# Altium schematic symbol library FTDI FT Series.SchLib: 36 symbols (part 1 of 2)
Pins are listed as number, name and electrical type; pins without a type are passive.

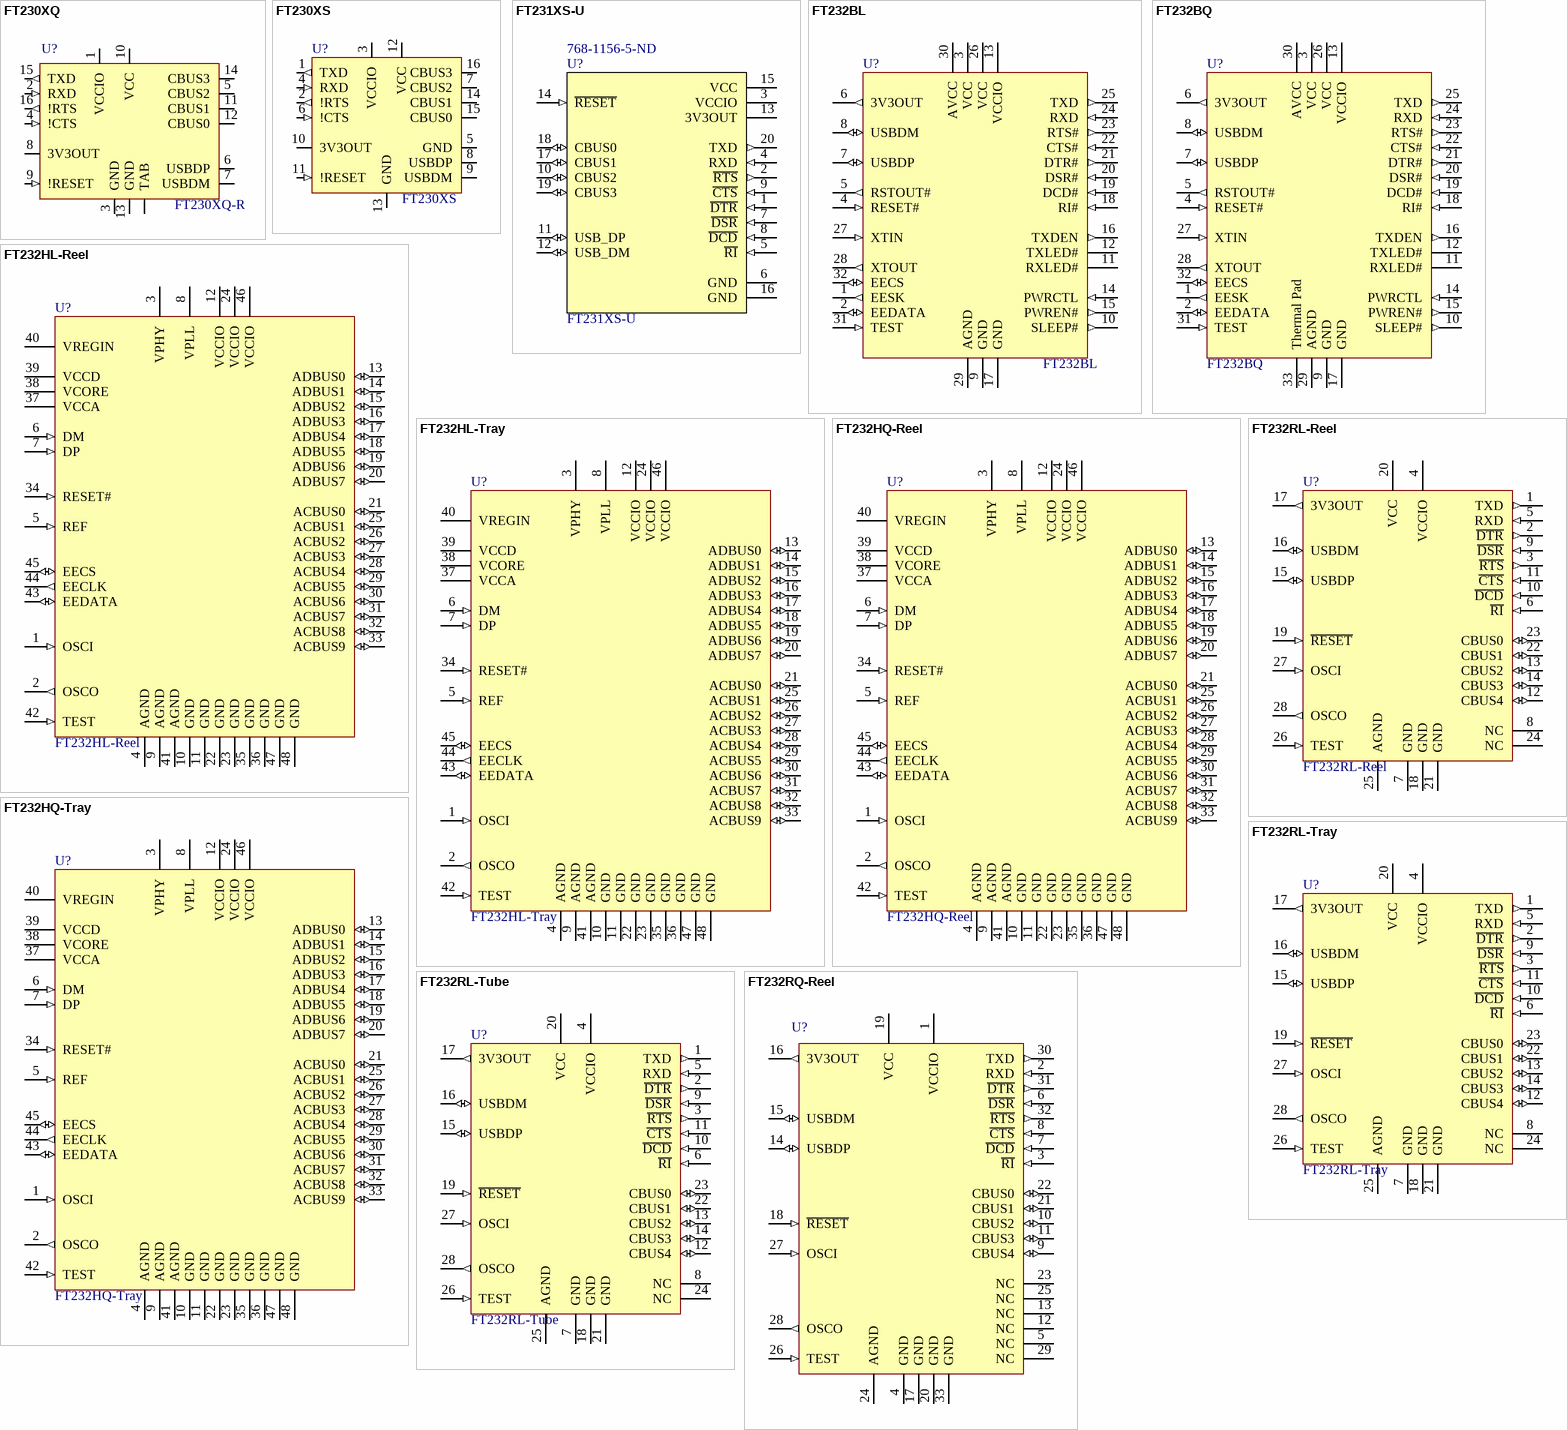
[diagram p0: symbols FT230XQ to FT232RQ-Reel]

## FT230XQ
designator U?, comment FT230XQ-R
IC USB SERIAL BASIC UART 16QFN; Manuf1: FTDI; Populated: Yes; Manuf1Partnumber: FT230XQ-R; Value: FT230XQ-R; ROHS: Yes; Supplier 1: Digi-Key; Supplier Part Number 1: 768-1153-ND; ClassName: *; Code_JEDEC: *; HelpURL: *
footprint QFN16
footprint QFN16-UPDATE
pins: 1 VCCIO (power), 2 RXD (in), 3 GND (power), 4 !CTS (in), 5 CBUS2 (io), 6 USBDP (io), 7 USBDM (io), 8 3V3OUT (power), 9 !RESET (in), 10 VCC (power), 11 CBUS1 (io), 12 CBUS0 (io), 13 GND (power), 14 CBUS3 (io), 15 TXD (out), 16 !RTS (out), TAB (power)

## FT230XS
designator U?
USB to BASIC UART IC   SSOP16; Manuf1: FTDI; Populated: Yes; Value: FT230XS; Manuf1Partnumber: FT230XS; ROHS: Yes; Supplier 1: Digi-Key; Supplier Part Number 1: 768-1154-5-ND; ClassName: *; HelpURL: *
footprint SSOP16
pins: 1 TXD (out), 2 !RTS (out), 3 VCCIO (power), 4 RXD (in), 5 GND (power), 6 !CTS (in), 7 CBUS2 (io), 8 USBDP (io), 9 USBDM (io), 10 3V3OUT (power), 11 !RESET (in), 12 VCC (power), 13 GND (power), 14 CBUS1 (io), 15 CBUS0 (io), 16 CBUS3 (io)

## FT231XS-U
designator U?  Supplier Part Number 1: 768-1156-5-ND
FT231XS-U, Usb Controller, 3MBD, Usb 1.1, Usb 2.0, 5 V, 20-PIN SSOP; Manufacturer: FTDI; Number of Channels: 1; Operating Supply Voltage: 5V; Max Supply Voltage: 5.5V; Min Supply Voltage: 2.97V; Data Rate: 3Mbps; ESD Protection: Yes; Supplier 1: Digi-Key; Manufacturer Part Number: FT231XS-U; RoHS: Yes; Category: Interface ICs; Stock 1: 5615; Pricing 1: 1=2,34000, 25=2,27000, 100=2,20000, 250=2,00000, 500=1,82500 (USD); Mount: Surface Mount; Case/Package: SSOP; Number of Pins: 20; Min Operating Temperature: -40°C; Max Operating Temperature: 85°C; Packaging: Rail/Tube; Package Quantity: 58; Number of Transceivers: 1; Series: *; Length: 8.74mm; Width: 3.99mm; Height: 1.5mm; Radiation Hardening: No; Lead Free: Lead Free; RoHS Compliant: Yes; ComponentLink1URL: https://datasheet.ciiva.com/16379/ds-ft231x-16379279.pdf?src-supplier=Future+Electronics; ComponentLink1Description: https://datasheet.ciiva.com/16379/ds-ft231x-16379279.pdf?src-supplier=Future+Electronics; ComponentLink2URL: https://datasheet.ciiva.com/15150/getdatasheetpartid-643513-15150507.pdf?src-supplier=Verical; ComponentLink2Description: https://datasheet.ciiva.com/15150/getdatasheetpartid-643513-15150507.pdf?src-supplier=Verical; ComponentLink3URL: https://datasheet.ciiva.com/48909/70403933-48909079.pdf?src-supplier=Allied+Electronics; ComponentLink3Description: https://datasheet.ciiva.com/48909/70403933-48909079.pdf?src-supplier=Allied+Electronics
footprint SOP63P600X175-20N (IC USB SERIAL FULL UART 20SSOP)
pins: 1 ~{DTR} (in), 2 ~{RTS} (out), 3 VCCIO (power), 4 RXD (in), 5 ~{RI} (in), 6 GND (power), 7 ~{DSR} (in), 8 ~{DCD} (in), 9 ~{CTS} (in), 10 CBUS2 (io), 11 USB_DP (io), 12 USB_DM (io), 13 3V3OUT (power), 14 ~{RESET} (in), 15 VCC (power), 16 GND (power), 17 CBUS1 (io), 18 CBUS0 (io), 19 CBUS3 (io), 20 TXD (out)

## FT232BL
designator U?
USB UART Asynchronous Serial Data Transfer Chip, 0 to +70 degC, 32-pin LQFP, Pb-Free; Manufacturer: FTDI; Populated: Yes; DatasheetVersion: ver 2.2, Nov-2011; PackageVersion: Nov-11; PackageReference: LQFP-32; PackageDescription: 32-Pin Thin Quad Flat Pack, 7 x 7 mm Body, 0.8 mm Pitch; PartNumber: FT232BL; ComponentLink1Description: Manufacturer URL; ComponentLink1URL: http://www.ftdichip.com/; ComponentLink2Description: Datasheet; ComponentLink2URL: http://www.ftdichip.com/Support/Documents/DataSheets/ICs/DS_FT232BL_BQ.pdf; Manuf1: FTDI; Value: FT232BL; Supplier 1: Digi-Key; Supplier Part Number 1: 768-1009-1-ND
footprint LQFP-32_N (Thin QFP, 32-Leads, Body 7x7mm, Pitch 0.8mm, IPC Medium Density)
footprint LQFP-32_L (Thin QFP, 32-Leads, Body 7x7mm, Pitch 0.8mm, IPC High Density)
footprint LQFP-32_M (Thin QFP, 32-Leads, Body 7x7mm, Pitch 0.8mm, IPC Low Density)
pins: 1 EESK (out), 2 EEDATA (io), 3 VCC (power), 4 RESET# (in), 5 RSTOUT# (out), 6 3V3OUT (out), 7 USBDP (io), 8 USBDM (io), 9 GND (power), 10 SLEEP# (out), 11 RXLED# (oc), 12 TXLED# (oc), 13 VCCIO (power), 14 PWRCTL (in), 15 PWREN# (out), 16 TXDEN (out), 17 GND (power), 18 RI# (in), 19 DCD# (in), 20 DSR# (in), 21 DTR# (out), 22 CTS# (in), 23 RTS# (out), 24 RXD (in), 25 TXD (out), 26 VCC (power), 27 XTIN (in), 28 XTOUT (out), 29 AGND (power), 30 AVCC (power), 31 TEST (in), 32 EECS (io)

## FT232BQ
designator U?
USB UART Asynchronous Serial Data Transfer Chip, 0 to +70 degC, 32-pin QFN, Pb-Free; Manufacturer: FTDI; Populated: Yes; DatasheetVersion: ver 2.2, Nov-2011; PackageVersion: Nov-11; PackageReference: QFN5X5-32; PackageDescription: 32-Pin Quad Flat No-Lead, 5 x 5 mm Body, 0.5 mm Pitch; PartNumber: FT232BQ; ComponentLink1Description: Manufacturer URL; ComponentLink1URL: http://www.ftdichip.com/; ComponentLink2Description: Datasheet; ComponentLink2URL: http://www.ftdichip.com/Support/Documents/DataSheets/ICs/DS_FT232BL_BQ.pdf; Manuf1: FTDI; ROHS: Yes; Value: FT232BQ; Supplier 1: Digi-Key; Supplier Part Number 1: 768-1067-1-ND
footprint QFN5X5-32_N (QFN, 32-Leads, Body 5x5mm, Pitch 0.5mm, Thermal Pad 3.3x3.3mm, IPC Medium Density)
footprint QFN5X5-32_L (QFN, 32-Leads, Body 5x5mm, Pitch 0.5mm, Thermal Pad 3.3x3.3mm, IPC High Density)
footprint QFN5X5-32_M (QFN, 32-Leads, Body 5x5mm, Pitch 0.5mm, Thermal Pad 3.3x3.3mm, IPC Low Density)
pins: 1 EESK (out), 2 EEDATA (io), 3 VCC (power), 4 RESET# (in), 5 RSTOUT# (out), 6 3V3OUT (out), 7 USBDP (io), 8 USBDM (io), 9 GND (power), 10 SLEEP# (out), 11 RXLED# (oc), 12 TXLED# (oc), 13 VCCIO (power), 14 PWRCTL (in), 15 PWREN# (out), 16 TXDEN (out), 17 GND (power), 18 RI# (in), 19 DCD# (in), 20 DSR# (in), 21 DTR# (out), 22 CTS# (in), 23 RTS# (out), 24 RXD (in), 25 TXD (out), 26 VCC (power), 27 XTIN (in), 28 XTOUT (out), 29 AGND (power), 30 AVCC (power), 31 TEST (in), 32 EECS (io), 33 Thermal Pad (power)

## FT232HL-Reel
designator U?
Single Channel Hi-Speed USB to Multipurpose UART/FIFO IC, 48-pin LQFP, Tape and Reel; Manufacturer: FTDI; Populated: Yes; DatasheetVersion: ver 1.8, Dec-2012; PackageVersion: Dec-12; PackageReference: LQFP-48; PackageDescription: 48-Pin Thin Quad Flat Pack, 7 x 7 mm Body, 0.5 mm Pitch; PartNumber: FT232HL-Reel; ComponentLink1Description: Manufacturer URL; ComponentLink1URL: http://www.ftdichip.com/; ComponentLink2Description: Datasheet; ComponentLink2URL: http://www.ftdichip.com/Support/Documents/DataSheets/ICs/DS_FT232H.pdf; Manuf1: FTDI; Value: FT232HL-Reel; Supplier 1: Digi-Key; Supplier Part Number 1: 768-1101-1-ND
footprint LQFP-48_N (Thin QFP, 48-Leads, Body 7x7mm, Pitch 0.5mm, IPC Medium Density)
footprint LQFP-48_L (Thin QFP, 48-Leads, Body 7x7mm, Pitch 0.5mm, IPC High Density)
footprint LQFP-48_M (Thin QFP, 48-Leads, Body 7x7mm, Pitch 0.5mm, IPC Low Density)
pins: 1 OSCI (in), 2 OSCO (out), 3 VPHY (power), 4 AGND (power), 5 REF (in), 6 DM (in), 7 DP (in), 8 VPLL (power), 9 AGND (power), 10 GND (power), 11 GND (power), 12 VCCIO (power), 13 ADBUS0 (io), 14 ADBUS1 (io), 15 ADBUS2 (io), 16 ADBUS3 (io), 17 ADBUS4 (io), 18 ADBUS5 (io), 19 ADBUS6 (io), 20 ADBUS7 (io), 21 ACBUS0 (io), 22 GND (power), 23 GND (power), 24 VCCIO (power), 25 ACBUS1 (io), 26 ACBUS2 (io), 27 ACBUS3 (io), 28 ACBUS4 (io), 29 ACBUS5 (io), 30 ACBUS6 (io), 31 ACBUS7 (io), 32 ACBUS8 (io), 33 ACBUS9 (io), 34 RESET# (in), 35 GND (power), 36 GND (power), 37 VCCA (power), 38 VCORE (power), 39 VCCD (power), 40 VREGIN (power), 41 AGND (power), 42 TEST (in), 43 EEDATA (io), 44 EECLK (out), 45 EECS (io), 46 VCCIO (power), 47 GND (power), 48 GND (power)

## FT232HL-Tray
designator U?
Single Channel Hi-Speed USB to Multipurpose UART/FIFO IC, 48-pin LQFP, Tray; Manufacturer: FTDI; Populated: Yes; DatasheetVersion: ver 1.8, Dec-2012; PackageVersion: Dec-12; PackageReference: LQFP-48; PackageDescription: 48-Pin Thin Quad Flat Pack, 7 x 7 mm Body, 0.5 mm Pitch; PartNumber: FT232HL-Tray; ComponentLink1Description: Manufacturer URL; ComponentLink1URL: http://www.ftdichip.com/; ComponentLink2Description: Datasheet; ComponentLink2URL: http://www.ftdichip.com/Support/Documents/DataSheets/ICs/DS_FT232H.pdf; Manuf1: FTDI; ROHS: Yes; Value: FT232HL-Tray; Supplier 1: Digi-Key; Supplier Part Number 1: FT232HL-TRAY-ND
footprint LQFP-48_N (Thin QFP, 48-Leads, Body 7x7mm, Pitch 0.5mm, IPC Medium Density)
footprint LQFP-48_L (Thin QFP, 48-Leads, Body 7x7mm, Pitch 0.5mm, IPC High Density)
footprint LQFP-48_M (Thin QFP, 48-Leads, Body 7x7mm, Pitch 0.5mm, IPC Low Density)
pins: 1 OSCI (in), 2 OSCO (out), 3 VPHY (power), 4 AGND (power), 5 REF (in), 6 DM (in), 7 DP (in), 8 VPLL (power), 9 AGND (power), 10 GND (power), 11 GND (power), 12 VCCIO (power), 13 ADBUS0 (io), 14 ADBUS1 (io), 15 ADBUS2 (io), 16 ADBUS3 (io), 17 ADBUS4 (io), 18 ADBUS5 (io), 19 ADBUS6 (io), 20 ADBUS7 (io), 21 ACBUS0 (io), 22 GND (power), 23 GND (power), 24 VCCIO (power), 25 ACBUS1 (io), 26 ACBUS2 (io), 27 ACBUS3 (io), 28 ACBUS4 (io), 29 ACBUS5 (io), 30 ACBUS6 (io), 31 ACBUS7 (io), 32 ACBUS8 (io), 33 ACBUS9 (io), 34 RESET# (in), 35 GND (power), 36 GND (power), 37 VCCA (power), 38 VCORE (power), 39 VCCD (power), 40 VREGIN (power), 41 AGND (power), 42 TEST (in), 43 EEDATA (io), 44 EECLK (out), 45 EECS (io), 46 VCCIO (power), 47 GND (power), 48 GND (power)

## FT232HQ-Reel
designator U?
Single Channel Hi-Speed USB to Multipurpose UART/FIFO IC, 48-pin QFN, Tape and Reel; Manufacturer: FTDI; Populated: Yes; DatasheetVersion: ver 1.8, Dec-2012; PackageVersion: Dec-12; PackageReference: QFN48; PackageDescription: 48-Pin Quad Flat No-Lead 0.5 mm Pitch, 6.2 x 6.2 mm Exposed Pad; PartNumber: FT232HQ-Reel; ComponentLink1Description: Manufacturer URL; ComponentLink1URL: http://www.ftdichip.com/; ComponentLink2Description: Datasheet; ComponentLink2URL: http://www.ftdichip.com/Support/Documents/DataSheets/ICs/DS_FT232H.pdf; Manuf1: FTDI; ROHS: Yes; Value: FT232HQ-Reel; Supplier 1: Mouser; Supplier Part Number 1: 895-FT232HQ-REEL
footprint QFN48_N (QFN, 48-Leads, Body 8x8mm, Pitch 0.5mm, Thermal Pad 6.3x6.3mm, IPC Medium Density)
footprint QFN48_L (QFN, 48-Leads, Body 8x8mm, Pitch 0.5mm, Thermal Pad 6.3x6.3mm, IPC High Density)
footprint QFN48_M (QFN, 48-Leads, Body 8x8mm, Pitch 0.5mm, Thermal Pad 6.3x6.3mm, IPC Low Density)
pins: 1 OSCI (in), 2 OSCO (out), 3 VPHY (power), 4 AGND (power), 5 REF (in), 6 DM (in), 7 DP (in), 8 VPLL (power), 9 AGND (power), 10 GND (power), 11 GND (power), 12 VCCIO (power), 13 ADBUS0 (io), 14 ADBUS1 (io), 15 ADBUS2 (io), 16 ADBUS3 (io), 17 ADBUS4 (io), 18 ADBUS5 (io), 19 ADBUS6 (io), 20 ADBUS7 (io), 21 ACBUS0 (io), 22 GND (power), 23 GND (power), 24 VCCIO (power), 25 ACBUS1 (io), 26 ACBUS2 (io), 27 ACBUS3 (io), 28 ACBUS4 (io), 29 ACBUS5 (io), 30 ACBUS6 (io), 31 ACBUS7 (io), 32 ACBUS8 (io), 33 ACBUS9 (io), 34 RESET# (in), 35 GND (power), 36 GND (power), 37 VCCA (power), 38 VCORE (power), 39 VCCD (power), 40 VREGIN (power), 41 AGND (power), 42 TEST (in), 43 EEDATA (io), 44 EECLK (out), 45 EECS (io), 46 VCCIO (power), 47 GND (power), 48 GND (power)

## FT232HQ-Tray
designator U?  (mechanical)
Single Channel Hi-Speed USB to Multipurpose UART/FIFO IC, 48-pin QFN, Tray; Manufacturer: FTDI; Populated: Yes; DatasheetVersion: ver 1.8, Dec-2012; PackageVersion: Dec-12; PackageReference: QFN48; PackageDescription: 48-Pin Quad Flat No-Lead 0.5 mm Pitch, 6.2 x 6.2 mm Exposed Pad; PartNumber: FT232HQ-Tray; ComponentLink1Description: Manufacturer URL; ComponentLink1URL: http://www.ftdichip.com/; ComponentLink2Description: Datasheet; ComponentLink2URL: http://www.ftdichip.com/Support/Documents/DataSheets/ICs/DS_FT232H.pdf; Manuf1: FTDI; ROHS: Yes; Value: FT232HQ-Tray; Supplier 1: Digi-Key; Supplier Part Number 1: FT232HQ-TRAY-ND
footprint QFN48_N (QFN, 48-Leads, Body 8x8mm, Pitch 0.5mm, Thermal Pad 6.3x6.3mm, IPC Medium Density)
footprint QFN48_L (QFN, 48-Leads, Body 8x8mm, Pitch 0.5mm, Thermal Pad 6.3x6.3mm, IPC High Density)
footprint QFN48_M (QFN, 48-Leads, Body 8x8mm, Pitch 0.5mm, Thermal Pad 6.3x6.3mm, IPC Low Density)
pins: 1 OSCI (in), 2 OSCO (out), 3 VPHY (power), 4 AGND (power), 5 REF (in), 6 DM (in), 7 DP (in), 8 VPLL (power), 9 AGND (power), 10 GND (power), 11 GND (power), 12 VCCIO (power), 13 ADBUS0 (io), 14 ADBUS1 (io), 15 ADBUS2 (io), 16 ADBUS3 (io), 17 ADBUS4 (io), 18 ADBUS5 (io), 19 ADBUS6 (io), 20 ADBUS7 (io), 21 ACBUS0 (io), 22 GND (power), 23 GND (power), 24 VCCIO (power), 25 ACBUS1 (io), 26 ACBUS2 (io), 27 ACBUS3 (io), 28 ACBUS4 (io), 29 ACBUS5 (io), 30 ACBUS6 (io), 31 ACBUS7 (io), 32 ACBUS8 (io), 33 ACBUS9 (io), 34 RESET# (in), 35 GND (power), 36 GND (power), 37 VCCA (power), 38 VCORE (power), 39 VCCD (power), 40 VREGIN (power), 41 AGND (power), 42 TEST (in), 43 EEDATA (io), 44 EECLK (out), 45 EECS (io), 46 VCCIO (power), 47 GND (power), 48 GND (power)

## FT232RL-Reel
designator U?
USB UART Asynchronous Serial Data Transfer Chip, 28-pin SSOP, Tape and Reel; Manufacturer: FTDI; Populated: Yes; DatasheetVersion: ver 2.10, Mar-2012; PackageVersion: Mar-12; PackageReference: SSOP-28; PackageDescription: 28-Pin Small Outline Package 0.65 mm Pitch; PartNumber: FT232RL-Reel; ComponentLink1Description: Manufacturer URL; ComponentLink1URL: http://www.ftdichip.com/; ComponentLink2Description: Datasheet; ComponentLink2URL: http://www.ftdichip.com/Support/Documents/DataSheets/ICs/DS_FT232R.pdf; Manuf1: FTDI; ROHS: Yes; Value: FT232RL-Reel; Supplier 1: Digi-Key; Supplier Part Number 1: 768-1007-1-ND
footprint SSOP-28_N (SOP, 28-Leads, Body 10.2x5.3mm, Pitch 0.65mm, IPC Medium Density)
footprint SSOP-28_L (SOP, 28-Leads, Body 10.2x5.3mm, Pitch 0.65mm, IPC High Density)
footprint SSOP-28_M (SOP, 28-Leads, Body 10.2x5.3mm, Pitch 0.65mm, IPC Low Density)
pins: 1 TXD (out), 2 ~{DTR} (out), 3 ~{RTS} (out), 4 VCCIO (power), 5 RXD (in), 6 ~{RI} (in), 7 GND (power), 8 NC, 9 ~{DSR} (in), 10 ~{DCD} (in), 11 ~{CTS} (in), 12 CBUS4 (io), 13 CBUS2 (io), 14 CBUS3 (io), 15 USBDP (io), 16 USBDM (io), 17 3V3OUT (out), 18 GND (power), 19 ~{RESET} (in), 20 VCC (power), 21 GND (power), 22 CBUS1 (io), 23 CBUS0 (io), 24 NC, 25 AGND (power), 26 TEST (in), 27 OSCI (in), 28 OSCO (out)

## FT232RL-Tray
designator U?
USB UART Asynchronous Serial Data Transfer Chip, 28-pin SSOP, Tray; Manufacturer: FTDI; Populated: Yes; DatasheetVersion: ver 2.10, Mar-2012; PackageVersion: Mar-12; PackageReference: SSOP-28; PackageDescription: 28-Pin Small Outline Package 0.65 mm Pitch; PartNumber: FT232RL-Tray; ComponentLink1Description: Manufacturer URL; ComponentLink1URL: http://www.ftdichip.com/; ComponentLink2Description: Datasheet; ComponentLink2URL: http://www.ftdichip.com/Support/Documents/DataSheets/ICs/DS_FT232R.pdf; Manuf1: FTDI; ROHS: Yes; Value: FT232RL-Tray; Supplier 1: Farnell; Supplier Part Number 1: 1146032
footprint SSOP-28_N (SOP, 28-Leads, Body 10.2x5.3mm, Pitch 0.65mm, IPC Medium Density)
footprint SSOP-28_L (SOP, 28-Leads, Body 10.2x5.3mm, Pitch 0.65mm, IPC High Density)
footprint SSOP-28_M (SOP, 28-Leads, Body 10.2x5.3mm, Pitch 0.65mm, IPC Low Density)
pins: 1 TXD (out), 2 ~{DTR} (out), 3 ~{RTS} (out), 4 VCCIO (power), 5 RXD (in), 6 ~{RI} (in), 7 GND (power), 8 NC, 9 ~{DSR} (in), 10 ~{DCD} (in), 11 ~{CTS} (in), 12 CBUS4 (io), 13 CBUS2 (io), 14 CBUS3 (io), 15 USBDP (io), 16 USBDM (io), 17 3V3OUT (out), 18 GND (power), 19 ~{RESET} (in), 20 VCC (power), 21 GND (power), 22 CBUS1 (io), 23 CBUS0 (io), 24 NC, 25 AGND (power), 26 TEST (in), 27 OSCI (in), 28 OSCO (out)

## FT232RL-Tube
designator U?
USB UART Asynchronous Serial Data Transfer Chip, 28-pin SSOP, Tube; Manufacturer: FTDI; Populated: Yes; DatasheetVersion: ver 2.10, Mar-2012; PackageVersion: Mar-12; PackageReference: SSOP-28; PackageDescription: 28-Pin Small Outline Package 0.65 mm Pitch; PartNumber: FT232RL-Tube; ComponentLink1Description: Manufacturer URL; ComponentLink1URL: http://www.ftdichip.com/; ComponentLink2Description: Datasheet; ComponentLink2URL: http://www.ftdichip.com/Support/Documents/DataSheets/ICs/DS_FT232R.pdf; Manuf1: FTDI; ROHS: Yes; Value: FT232RL-Tube; Supplier 1: Digi-Key; Supplier Part Number 1: FT232RL-TUBE-ND
footprint SSOP-28_N (SOP, 28-Leads, Body 10.2x5.3mm, Pitch 0.65mm, IPC Medium Density)
footprint SSOP-28_L (SOP, 28-Leads, Body 10.2x5.3mm, Pitch 0.65mm, IPC High Density)
footprint SSOP-28_M (SOP, 28-Leads, Body 10.2x5.3mm, Pitch 0.65mm, IPC Low Density)
pins: 1 TXD (out), 2 ~{DTR} (out), 3 ~{RTS} (out), 4 VCCIO (power), 5 RXD (in), 6 ~{RI} (in), 7 GND (power), 8 NC, 9 ~{DSR} (in), 10 ~{DCD} (in), 11 ~{CTS} (in), 12 CBUS4 (io), 13 CBUS2 (io), 14 CBUS3 (io), 15 USBDP (io), 16 USBDM (io), 17 3V3OUT (out), 18 GND (power), 19 ~{RESET} (in), 20 VCC (power), 21 GND (power), 22 CBUS1 (io), 23 CBUS0 (io), 24 NC, 25 AGND (power), 26 TEST (in), 27 OSCI (in), 28 OSCO (out)

## FT232RQ-Reel
designator U?
USB UART Asynchronous Serial Data Transfer Chip, 32-pin QFN, Tape and Reel; Manufacturer: FTDI; PartNumber: FT232RQ-Reel; Populated: Yes; DatasheetVersion: ver 2.10, Mar-2012; PackageVersion: Mar-12; PackageReference: PQFN5X5-32; PackageDescription: 32-Pin Quad Flat No-Lead 0.5 mm Pitch, Pullback, 3.2 x 3.2 mm Exposed Pad; ComponentLink1Description: Manufacturer URL; ComponentLink1URL: http://www.ftdichip.com/; ComponentLink2Description: Datasheet; ComponentLink2URL: http://www.ftdichip.com/Support/Documents/DataSheets/ICs/DS_FT232R.pdf; Manuf1: FTDI
footprint PQFN5X5-32_V (QFN, 32-Leads, Body 5x5mm, Pitch 0.5mm, Thermal Pad 3.3x3.3mm, FTDI Recommended)
pins: 1 VCCIO (power), 2 RXD (in), 3 ~{RI} (in), 4 GND (power), 5 NC, 6 ~{DSR} (in), 7 ~{DCD} (in), 8 ~{CTS} (in), 9 CBUS4 (io), 10 CBUS2 (io), 11 CBUS3 (io), 12 NC, 13 NC, 14 USBDP (io), 15 USBDM (io), 16 3V3OUT (out), 17 GND (power), 18 ~{RESET} (in), 19 VCC (power), 20 GND (power), 21 CBUS1 (io), 22 CBUS0 (io), 23 NC, 24 AGND (power), 25 NC, 26 TEST (in), 27 OSCI (in), 28 OSCO (out), 29 NC, 30 TXD (out), 31 ~{DTR} (out), 32 ~{RTS} (out), 33 GND (power)

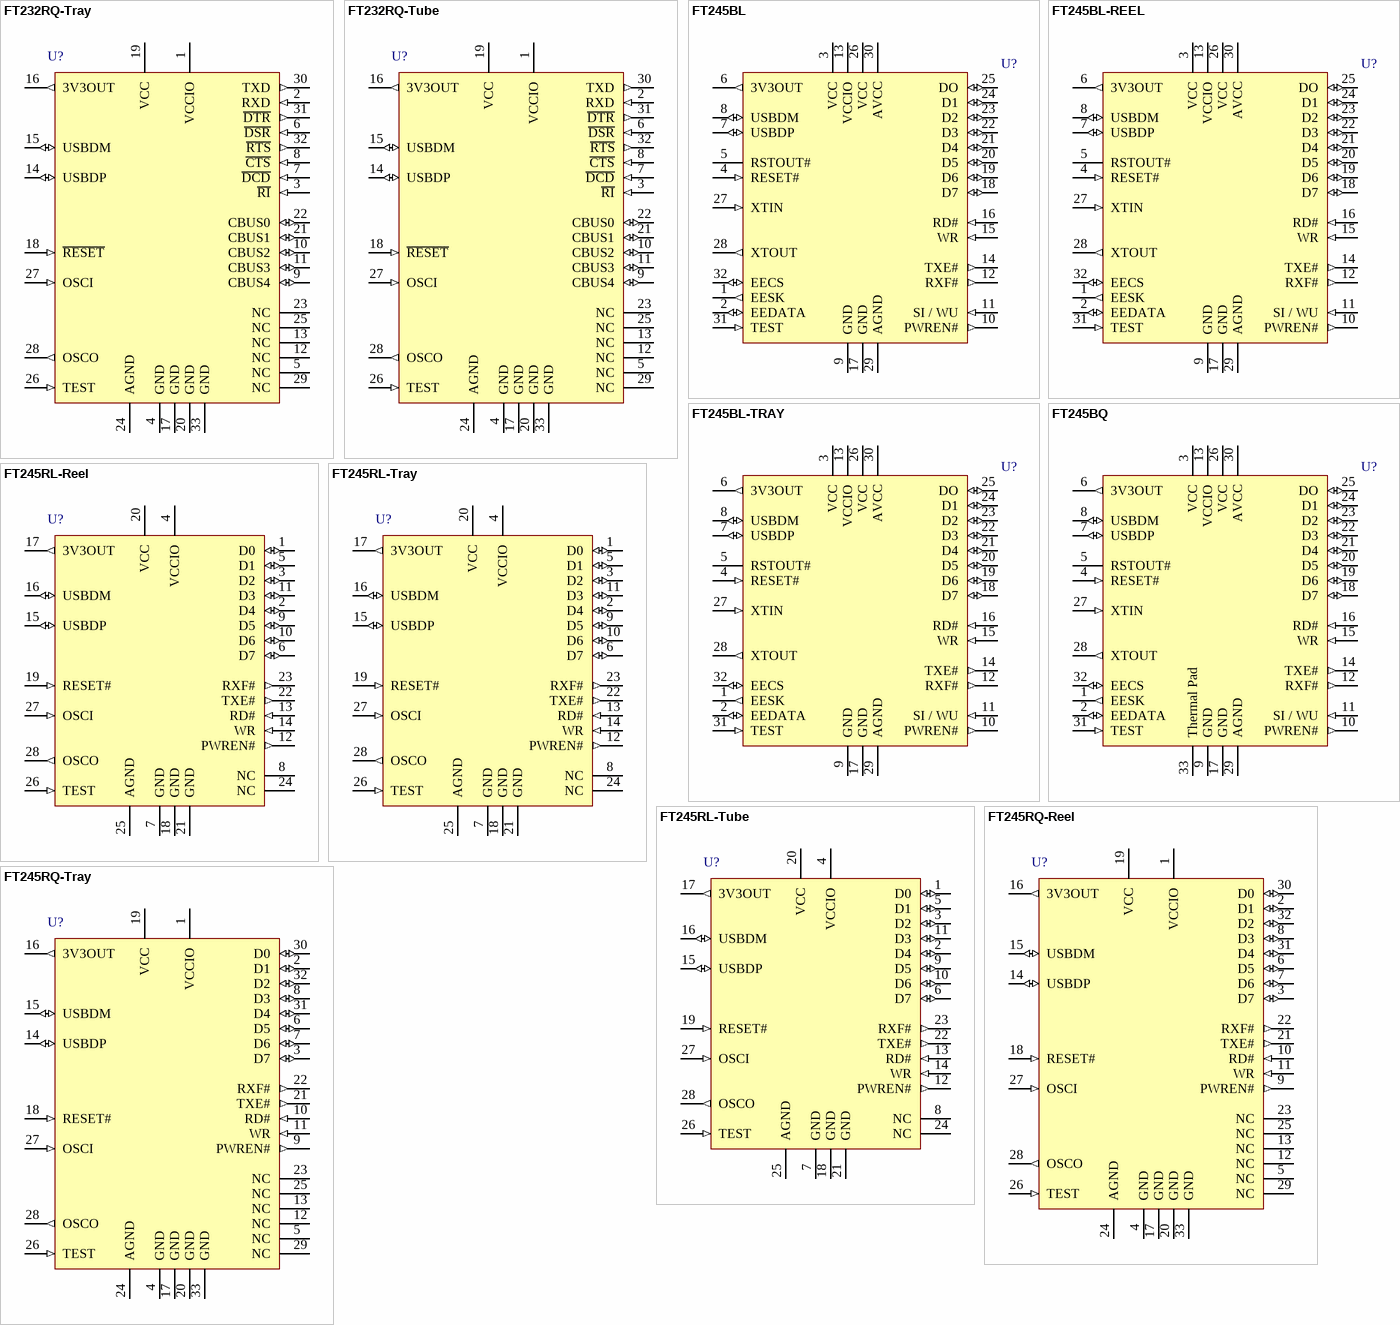
[diagram p1: symbols FT232RQ-Tray to FT245RQ-Tray]

## FT232RQ-Tray
designator U?
USB UART Asynchronous Serial Data Transfer Chip, 32-pin QFN, Tray; Manufacturer: FTDI; PartNumber: FT232RQ-Tray; Populated: Yes; DatasheetVersion: ver 2.10, Mar-2012; PackageVersion: Mar-12; PackageReference: PQFN5X5-32; PackageDescription: 32-Pin Quad Flat No-Lead 0.5 mm Pitch, Pullback, 3.2 x 3.2 mm Exposed Pad; ComponentLink1Description: Manufacturer URL; ComponentLink1URL: http://www.ftdichip.com/; ComponentLink2Description: Datasheet; ComponentLink2URL: http://www.ftdichip.com/Support/Documents/DataSheets/ICs/DS_FT232R.pdf; Manuf1: FTDI
footprint PQFN5X5-32_V (QFN, 32-Leads, Body 5x5mm, Pitch 0.5mm, Thermal Pad 3.3x3.3mm, FTDI Recommended)
pins: 1 VCCIO (power), 2 RXD (in), 3 ~{RI} (in), 4 GND (power), 5 NC, 6 ~{DSR} (in), 7 ~{DCD} (in), 8 ~{CTS} (in), 9 CBUS4 (io), 10 CBUS2 (io), 11 CBUS3 (io), 12 NC, 13 NC, 14 USBDP (io), 15 USBDM (io), 16 3V3OUT (out), 17 GND (power), 18 ~{RESET} (in), 19 VCC (power), 20 GND (power), 21 CBUS1 (io), 22 CBUS0 (io), 23 NC, 24 AGND (power), 25 NC, 26 TEST (in), 27 OSCI (in), 28 OSCO (out), 29 NC, 30 TXD (out), 31 ~{DTR} (out), 32 ~{RTS} (out), 33 GND (power)

## FT232RQ-Tube
designator U?
USB UART Asynchronous Serial Data Transfer Chip, 32-pin QFN, Tube; Manufacturer: FTDI; PartNumber: FT232RQ-Tube; Populated: Yes; DatasheetVersion: ver 2.10, Mar-2012; PackageVersion: Mar-12; PackageReference: PQFN5X5-32; PackageDescription: 32-Pin Quad Flat No-Lead 0.5 mm Pitch, Pullback, 3.2 x 3.2 mm Exposed Pad; ComponentLink1Description: Manufacturer URL; ComponentLink1URL: http://www.ftdichip.com/; ComponentLink2Description: Datasheet; ComponentLink2URL: http://www.ftdichip.com/Support/Documents/DataSheets/ICs/DS_FT232R.pdf; Manuf1: FTDI
footprint PQFN5X5-32_V (QFN, 32-Leads, Body 5x5mm, Pitch 0.5mm, Thermal Pad 3.3x3.3mm, FTDI Recommended)
pins: 1 VCCIO (power), 2 RXD (in), 3 ~{RI} (in), 4 GND (power), 5 NC, 6 ~{DSR} (in), 7 ~{DCD} (in), 8 ~{CTS} (in), 9 CBUS4 (io), 10 CBUS2 (io), 11 CBUS3 (io), 12 NC, 13 NC, 14 USBDP (io), 15 USBDM (io), 16 3V3OUT (out), 17 GND (power), 18 ~{RESET} (in), 19 VCC (power), 20 GND (power), 21 CBUS1 (io), 22 CBUS0 (io), 23 NC, 24 AGND (power), 25 NC, 26 TEST (in), 27 OSCI (in), 28 OSCO (out), 29 NC, 30 TXD (out), 31 ~{DTR} (out), 32 ~{RTS} (out), 33 GND (power)

## FT245BL
designator U?
USB/Parallel FIFO Bi-Directional Data Transfer Chip, 32-pin LQFP, Pb-Free; Manufacturer: FTDI; PartNumber: FT245BL; Populated: Yes; DatasheetVersion: ver 1.7, Nov-2005; PackageVersion: Nov-05; PackageReference: LQFP-32; PackageDescription: 32-Pin Thin Quad Flat Pack, 7 x 7 mm Body, 0.8 mm Pitch; ComponentLink1Description: Manufacturer URL; ComponentLink1URL: http://www.ftdichip.com/; ComponentLink2Description: Datasheet; ComponentLink2URL: http://www.ftdichip.com/Support/Documents/DataSheets/ICs/DS_FT245BL.pdf; Manuf1: FTDI
footprint LQFP-32_N (Thin QFP, 32-Leads, Body 7x7mm, Pitch 0.8mm, IPC Medium Density)
footprint LQFP-32_L (Thin QFP, 32-Leads, Body 7x7mm, Pitch 0.8mm, IPC High Density)
footprint LQFP-32_M (Thin QFP, 32-Leads, Body 7x7mm, Pitch 0.8mm, IPC Low Density)
pins: 1 EESK (out) "Clock signal to EEPROM. Adding a 10K pull down resistor onto EESK will cause the FT245BM to use USB Product ID 6005 (hex) instead of 6001 (hex). All of the other USB device descriptors are unchanged.", 2 EEDATA (io) "EEPROM - Data I/O Connect directly to Data-In of the EEPROM and to Data-Out of the EEPROM via a 2.2K resistor. Also pull Data-Out of the EEPROM to VCC via a 10K resistor for correct operation.", 3 VCC (power) "+4.35 volt to +5.25 volt VCC to the device core, LDO and none-FIFO interface pins.", 4 RESET# (in) "Can be used by an external device to reset the FT245BM. If not required, tie to VCC.", 5 RSTOUT# (hiz) "Output of the internal Reset Generator. Stays high impedance for 5ms after VCC > 3.5V and the internal clock starts up, then clamps its output to the 3.3V output of the internal regulator.", 6 3V3OUT (out) "3.3 volt Output from the integrated L.D.O. regulator This pin should be decoupled to GND using a 33nF ceramic capacitor in close proximity to the device pin.", 7 USBDP (io) "USB Data Signal Plus (Requires 1.5K pull-up to 3V3OUT or RSTOUT#)", 8 USBDM (io) "USB Data Signal Minus", 9 GND (power) "Device - Ground Supply Pins", 10 PWREN# (out) "Goes Low after the device is configured via USB, then high during USB suspend. Can be used to control power to external logic using a P-Channel MOSFET switch. Enable the Interface Pull-Down Option in EEPROM when using the PWREN# pin in this way.", 11 SI / WU (in) "Send Immediate / WakeUp. Tie this pin to VCCIO if not used.", 12 RXF# (out) "When high, do not read data from the FIFO. When low, there is data available in the FIFO which can be read by strobing RD# low then high again.", 13 VCCIO (power) "+3.0 volt to +5.25 volt VCC to the FIFO interface pins 10..12, 14..16 and 18..25.", 14 TXE# (out) "When high, do not write data into the FIFO. When low, data can be written into the FIFO by strobing WR high then low.", 15 WR (in) "Writes the Data Byte on the D0..D7 into the Transmit FIFO Buffer when WR goes from high to low.", 16 RD# (in) "Enables Current FIFO Data Byte on D0..D7 when low. Fetches the next FIFO Data Byte (if available) from the Receive FIFO Buffer when RD# goes from low to high.", 17 GND (power) "Device - Ground Supply Pins", 18 D7 (io) "FIFO Data Bus Bit 7", 19 D6 (io) "FIFO Data Bus Bit 6", 20 D5 (io) "FIFO Data Bus Bit 5", 21 D4 (io) "FIFO Data Bus Bit 4", 22 D3 (io) "FIFO Data Bus Bit 3", 23 D2 (io) "FIFO Data Bus Bit 2", 24 D1 (io) "FIFO Data Bus Bit 1", 25 DO (io) "FIFO Data Bus Bit 0", 26 VCC (power) "+4.35 volt to +5.25 volt VCC to the device core, LDO and none-FIFO interface pins.", 27 XTIN (in) "Input to 6MHz Crystal Oscillator. Can also be driven by an external 6MHz clock. Note : Switching threshold of this pin is VCC/2, so if driving from an external source, the source must be driving at 5V CMOS level or a.c. coupled to centre around VCC/2.", 28 XTOUT (out) "Output from 6MHz Crystal Oscillator Cell. XTOUT stops oscillating during USB suspend, so take care if using this signal to clock external logic.", 29 AGND (power) "Device - Analog Ground Supply for the internal x8 clock multiplier", 30 AVCC (power) "Device - Analog Power Supply for the internal x8 clock multiplier", 31 TEST (in) "Puts device in I.C. test mode – must be tied to GND for normal operation.", 32 EECS (io) "EEPROM - Chip Select. For 48MHz operation pull EECS to GND using a 10K resistor. For 6MHz operation no resistor is required."

## FT245BL-REEL
designator U?
USB/Parallel FIFO Bi-Directional Data Transfer Chip, 32-pin LQFP, Pb-Free, Tape and Reel; Manufacturer: FTDI; PartNumber: FT245BL-REEL; Populated: Yes; DatasheetVersion: ver 1.7, Nov-2005; PackageVersion: Nov-05; PackageReference: LQFP-32; PackageDescription: 32-Pin Thin Quad Flat Pack, 7 x 7 mm Body, 0.8 mm Pitch; ComponentLink1Description: Manufacturer URL; ComponentLink1URL: http://www.ftdichip.com/; ComponentLink2Description: Datasheet; ComponentLink2URL: http://www.ftdichip.com/Support/Documents/DataSheets/ICs/DS_FT245BL.pdf; Manuf1: FTDI
footprint LQFP-32_N (Thin QFP, 32-Leads, Body 7x7mm, Pitch 0.8mm, IPC Medium Density)
footprint LQFP-32_L (Thin QFP, 32-Leads, Body 7x7mm, Pitch 0.8mm, IPC High Density)
footprint LQFP-32_M (Thin QFP, 32-Leads, Body 7x7mm, Pitch 0.8mm, IPC Low Density)
pins: 1 EESK (out) "Clock signal to EEPROM. Adding a 10K pull down resistor onto EESK will cause the FT245BM to use USB Product ID 6005 (hex) instead of 6001 (hex). All of the other USB device descriptors are unchanged.", 2 EEDATA (io) "EEPROM - Data I/O Connect directly to Data-In of the EEPROM and to Data-Out of the EEPROM via a 2.2K resistor. Also pull Data-Out of the EEPROM to VCC via a 10K resistor for correct operation.", 3 VCC (power) "+4.35 volt to +5.25 volt VCC to the device core, LDO and none-FIFO interface pins.", 4 RESET# (in) "Can be used by an external device to reset the FT245BM. If not required, tie to VCC.", 5 RSTOUT# (hiz) "Output of the internal Reset Generator. Stays high impedance for 5ms after VCC > 3.5V and the internal clock starts up, then clamps its output to the 3.3V output of the internal regulator.", 6 3V3OUT (out) "3.3 volt Output from the integrated L.D.O. regulator This pin should be decoupled to GND using a 33nF ceramic capacitor in close proximity to the device pin.", 7 USBDP (io) "USB Data Signal Plus (Requires 1.5K pull-up to 3V3OUT or RSTOUT#)", 8 USBDM (io) "USB Data Signal Minus", 9 GND (power) "Device - Ground Supply Pins", 10 PWREN# (out) "Goes Low after the device is configured via USB, then high during USB suspend. Can be used to control power to external logic using a P-Channel MOSFET switch. Enable the Interface Pull-Down Option in EEPROM when using the PWREN# pin in this way.", 11 SI / WU (in) "Send Immediate / WakeUp. Tie this pin to VCCIO if not used.", 12 RXF# (out) "When high, do not read data from the FIFO. When low, there is data available in the FIFO which can be read by strobing RD# low then high again.", 13 VCCIO (power) "+3.0 volt to +5.25 volt VCC to the FIFO interface pins 10..12, 14..16 and 18..25.", 14 TXE# (out) "When high, do not write data into the FIFO. When low, data can be written into the FIFO by strobing WR high then low.", 15 WR (in) "Writes the Data Byte on the D0..D7 into the Transmit FIFO Buffer when WR goes from high to low.", 16 RD# (in) "Enables Current FIFO Data Byte on D0..D7 when low. Fetches the next FIFO Data Byte (if available) from the Receive FIFO Buffer when RD# goes from low to high.", 17 GND (power) "Device - Ground Supply Pins", 18 D7 (io) "FIFO Data Bus Bit 7", 19 D6 (io) "FIFO Data Bus Bit 6", 20 D5 (io) "FIFO Data Bus Bit 5", 21 D4 (io) "FIFO Data Bus Bit 4", 22 D3 (io) "FIFO Data Bus Bit 3", 23 D2 (io) "FIFO Data Bus Bit 2", 24 D1 (io) "FIFO Data Bus Bit 1", 25 DO (io) "FIFO Data Bus Bit 0", 26 VCC (power) "+4.35 volt to +5.25 volt VCC to the device core, LDO and none-FIFO interface pins.", 27 XTIN (in) "Input to 6MHz Crystal Oscillator. Can also be driven by an external 6MHz clock. Note : Switching threshold of this pin is VCC/2, so if driving from an external source, the source must be driving at 5V CMOS level or a.c. coupled to centre around VCC/2.", 28 XTOUT (out) "Output from 6MHz Crystal Oscillator Cell. XTOUT stops oscillating during USB suspend, so take care if using this signal to clock external logic.", 29 AGND (power) "Device - Analog Ground Supply for the internal x8 clock multiplier", 30 AVCC (power) "Device - Analog Power Supply for the internal x8 clock multiplier", 31 TEST (in) "Puts device in I.C. test mode – must be tied to GND for normal operation.", 32 EECS (io) "EEPROM - Chip Select. For 48MHz operation pull EECS to GND using a 10K resistor. For 6MHz operation no resistor is required."

## FT245BL-TRAY
designator U?
USB/Parallel FIFO Bi-Directional Data Transfer Chip, 32-pin LQFP, Pb-Free, Tray; Manufacturer: FTDI; PartNumber: FT245BL-TRAY; Populated: Yes; DatasheetVersion: ver 1.7, Nov-2005; PackageVersion: Nov-05; PackageReference: LQFP-32; PackageDescription: 32-Pin Thin Quad Flat Pack, 7 x 7 mm Body, 0.8 mm Pitch; ComponentLink1Description: Manufacturer URL; ComponentLink1URL: http://www.ftdichip.com/; ComponentLink2Description: Datasheet; ComponentLink2URL: http://www.ftdichip.com/Support/Documents/DataSheets/ICs/DS_FT245BL.pdf; Manuf1: FTDI
footprint LQFP-32_N (Thin QFP, 32-Leads, Body 7x7mm, Pitch 0.8mm, IPC Medium Density)
footprint LQFP-32_L (Thin QFP, 32-Leads, Body 7x7mm, Pitch 0.8mm, IPC High Density)
footprint LQFP-32_M (Thin QFP, 32-Leads, Body 7x7mm, Pitch 0.8mm, IPC Low Density)
pins: 1 EESK (out) "Clock signal to EEPROM. Adding a 10K pull down resistor onto EESK will cause the FT245BM to use USB Product ID 6005 (hex) instead of 6001 (hex). All of the other USB device descriptors are unchanged.", 2 EEDATA (io) "EEPROM - Data I/O Connect directly to Data-In of the EEPROM and to Data-Out of the EEPROM via a 2.2K resistor. Also pull Data-Out of the EEPROM to VCC via a 10K resistor for correct operation.", 3 VCC (power) "+4.35 volt to +5.25 volt VCC to the device core, LDO and none-FIFO interface pins.", 4 RESET# (in) "Can be used by an external device to reset the FT245BM. If not required, tie to VCC.", 5 RSTOUT# (hiz) "Output of the internal Reset Generator. Stays high impedance for 5ms after VCC > 3.5V and the internal clock starts up, then clamps its output to the 3.3V output of the internal regulator.", 6 3V3OUT (out) "3.3 volt Output from the integrated L.D.O. regulator This pin should be decoupled to GND using a 33nF ceramic capacitor in close proximity to the device pin.", 7 USBDP (io) "USB Data Signal Plus (Requires 1.5K pull-up to 3V3OUT or RSTOUT#)", 8 USBDM (io) "USB Data Signal Minus", 9 GND (power) "Device - Ground Supply Pins", 10 PWREN# (out) "Goes Low after the device is configured via USB, then high during USB suspend. Can be used to control power to external logic using a P-Channel MOSFET switch. Enable the Interface Pull-Down Option in EEPROM when using the PWREN# pin in this way.", 11 SI / WU (in) "Send Immediate / WakeUp. Tie this pin to VCCIO if not used.", 12 RXF# (out) "When high, do not read data from the FIFO. When low, there is data available in the FIFO which can be read by strobing RD# low then high again.", 13 VCCIO (power) "+3.0 volt to +5.25 volt VCC to the FIFO interface pins 10..12, 14..16 and 18..25.", 14 TXE# (out) "When high, do not write data into the FIFO. When low, data can be written into the FIFO by strobing WR high then low.", 15 WR (in) "Writes the Data Byte on the D0..D7 into the Transmit FIFO Buffer when WR goes from high to low.", 16 RD# (in) "Enables Current FIFO Data Byte on D0..D7 when low. Fetches the next FIFO Data Byte (if available) from the Receive FIFO Buffer when RD# goes from low to high.", 17 GND (power) "Device - Ground Supply Pins", 18 D7 (io) "FIFO Data Bus Bit 7", 19 D6 (io) "FIFO Data Bus Bit 6", 20 D5 (io) "FIFO Data Bus Bit 5", 21 D4 (io) "FIFO Data Bus Bit 4", 22 D3 (io) "FIFO Data Bus Bit 3", 23 D2 (io) "FIFO Data Bus Bit 2", 24 D1 (io) "FIFO Data Bus Bit 1", 25 DO (io) "FIFO Data Bus Bit 0", 26 VCC (power) "+4.35 volt to +5.25 volt VCC to the device core, LDO and none-FIFO interface pins.", 27 XTIN (in) "Input to 6MHz Crystal Oscillator. Can also be driven by an external 6MHz clock. Note : Switching threshold of this pin is VCC/2, so if driving from an external source, the source must be driving at 5V CMOS level or a.c. coupled to centre around VCC/2.", 28 XTOUT (out) "Output from 6MHz Crystal Oscillator Cell. XTOUT stops oscillating during USB suspend, so take care if using this signal to clock external logic.", 29 AGND (power) "Device - Analog Ground Supply for the internal x8 clock multiplier", 30 AVCC (power) "Device - Analog Power Supply for the internal x8 clock multiplier", 31 TEST (in) "Puts device in I.C. test mode – must be tied to GND for normal operation.", 32 EECS (io) "EEPROM - Chip Select. For 48MHz operation pull EECS to GND using a 10K resistor. For 6MHz operation no resistor is required."

## FT245BQ
designator U?
USB/Parallel FIFO Bi-Directional Data Transfer Chip, 32-pin QFN, Pb-Free; Manufacturer: FTDI; PartNumber: FT245BQ; Populated: Yes; DatasheetVersion: ver 1.7, Dec-2005; PackageVersion: Dec-05; PackageReference: QFN5X5-32; PackageDescription: 32-Pin Quad Flat No-Lead, 5 x 5 mm Body, 0.5 mm Pitch; ComponentLink1Description: Manufacturer URL; ComponentLink1URL: http://www.ftdichip.com/; ComponentLink2Description: Datasheet; ComponentLink2URL: http://www.ftdichip.com/Support/Documents/DataSheets/ICs/DS_FT245BQ.pdf; Manuf1: FTDI
footprint QFN5X5-32_N (QFN, 32-Leads, Body 5x5mm, Pitch 0.5mm, Thermal Pad 3.3x3.3mm, IPC Medium Density)
footprint QFN5X5-32_L (QFN, 32-Leads, Body 5x5mm, Pitch 0.5mm, Thermal Pad 3.3x3.3mm, IPC High Density)
footprint QFN5X5-32_M (QFN, 32-Leads, Body 5x5mm, Pitch 0.5mm, Thermal Pad 3.3x3.3mm, IPC Low Density)
pins: 1 EESK (out) "Clock signal to EEPROM. Adding a 10K pull down resistor onto EESK will cause the FT245BM to use USB Product ID 6005 (hex) instead of 6001 (hex). All of the other USB device descriptors are unchanged.", 2 EEDATA (io) "EEPROM - Data I/O Connect directly to Data-In of the EEPROM and to Data-Out of the EEPROM via a 2.2K resistor. Also pull Data-Out of the EEPROM to VCC via a 10K resistor for correct operation.", 3 VCC (power) "+4.35 volt to +5.25 volt VCC to the device core, LDO and none-FIFO interface pins.", 4 RESET# (in) "Can be used by an external device to reset the FT245BM. If not required, tie to VCC.", 5 RSTOUT# (hiz) "Output of the internal Reset Generator. Stays high impedance for 5ms after VCC > 3.5V and the internal clock starts up, then clamps its output to the 3.3V output of the internal regulator.", 6 3V3OUT (out) "3.3 volt Output from the integrated L.D.O. regulator This pin should be decoupled to GND using a 33nF ceramic capacitor in close proximity to the device pin.", 7 USBDP (io) "USB Data Signal Plus (Requires 1.5K pull-up to 3V3OUT or RSTOUT#)", 8 USBDM (io) "USB Data Signal Minus", 9 GND (power) "Device - Ground Supply Pins", 10 PWREN# (out) "Goes Low after the device is configured via USB, then high during USB suspend. Can be used to control power to external logic using a P-Channel MOSFET switch. Enable the Interface Pull-Down Option in EEPROM when using the PWREN# pin in this way.", 11 SI / WU (in) "Send Immediate / WakeUp. Tie this pin to VCCIO if not used.", 12 RXF# (out) "When high, do not read data from the FIFO. When low, there is data available in the FIFO which can be read by strobing RD# low then high again.", 13 VCCIO (power) "+3.0 volt to +5.25 volt VCC to the FIFO interface pins 10..12, 14..16 and 18..25.", 14 TXE# (out) "When high, do not write data into the FIFO. When low, data can be written into the FIFO by strobing WR high then low.", 15 WR (in) "Writes the Data Byte on the D0..D7 into the Transmit FIFO Buffer when WR goes from high to low.", 16 RD# (in) "Enables Current FIFO Data Byte on D0..D7 when low. Fetches the next FIFO Data Byte (if available) from the Receive FIFO Buffer when RD# goes from low to high.", 17 GND (power) "Device - Ground Supply Pins", 18 D7 (io) "FIFO Data Bus Bit 7", 19 D6 (io) "FIFO Data Bus Bit 6", 20 D5 (io) "FIFO Data Bus Bit 5", 21 D4 (io) "FIFO Data Bus Bit 4", 22 D3 (io) "FIFO Data Bus Bit 3", 23 D2 (io) "FIFO Data Bus Bit 2", 24 D1 (io) "FIFO Data Bus Bit 1", 25 DO (io) "FIFO Data Bus Bit 0", 26 VCC (power) "+4.35 volt to +5.25 volt VCC to the device core, LDO and none-FIFO interface pins.", 27 XTIN (in) "Input to 6MHz Crystal Oscillator. Can also be driven by an external 6MHz clock. Note : Switching threshold of this pin is VCC/2, so if driving from an external source, the source must be driving at 5V CMOS level or a.c. coupled to centre around VCC/2.", 28 XTOUT (out) "Output from 6MHz Crystal Oscillator Cell. XTOUT stops oscillating during USB suspend, so take care if using this signal to clock external logic.", 29 AGND (power) "Device - Analog Ground Supply for the internal x8 clock multiplier", 30 AVCC (power) "Device - Analog Power Supply for the internal x8 clock multiplier", 31 TEST (in) "Puts device in I.C. test mode – must be tied to GND for normal operation.", 32 EECS (io) "EEPROM - Chip Select. For 48MHz operation pull EECS to GND using a 10K resistor. For 6MHz operation no resistor is required.", 33 Thermal Pad (power)

## FT245RL-Reel
designator U?
USB/Parallel FIFO Bi-Directional Data Transfer Chip, 28-pin SSOP, Tape and Reel; Manufacturer: FTDI; PartNumber: FT245RL-Reel; Populated: Yes; DatasheetVersion: ver 2.12, Apr-2011; PackageVersion: Apr-11; PackageReference: SSOP-28; PackageDescription: 28-Pin Small Outline Package 0.65 mm Pitch; ComponentLink1Description: Manufacturer URL; ComponentLink1URL: http://www.ftdichip.com/; ComponentLink2Description: Datasheet; ComponentLink2URL: http://www.ftdichip.com/Support/Documents/DataSheets/ICs/DS_FT245R.pdf; Manuf1: FTDI
footprint SSOP-28_N (SOP, 28-Leads, Body 10.2x5.3mm, Pitch 0.65mm, IPC Medium Density)
footprint SSOP-28_L (SOP, 28-Leads, Body 10.2x5.3mm, Pitch 0.65mm, IPC High Density)
footprint SSOP-28_M (SOP, 28-Leads, Body 10.2x5.3mm, Pitch 0.65mm, IPC Low Density)
pins: 1 D0 (io), 2 D4 (io), 3 D2 (io), 4 VCCIO (power), 5 D1 (io), 6 D7 (io), 7 GND (power), 8 NC, 9 D5 (io), 10 D6 (io), 11 D3 (io), 12 PWREN# (out), 13 RD# (in), 14 WR (in), 15 USBDP (io), 16 USBDM (io), 17 3V3OUT (out), 18 GND (power), 19 RESET# (in), 20 VCC (power), 21 GND (power), 22 TXE# (out), 23 RXF# (out), 24 NC, 25 AGND (power), 26 TEST (in), 27 OSCI (in), 28 OSCO (out)

## FT245RL-Tray
designator U?
USB/Parallel FIFO Bi-Directional Data Transfer Chip, 28-pin SSOP, Tray; Manufacturer: FTDI; PartNumber: FT245RL-Tray; Populated: Yes; DatasheetVersion: ver 2.12, Apr-2011; PackageVersion: Apr-11; PackageReference: SSOP-28; PackageDescription: 28-Pin Small Outline Package 0.65 mm Pitch; ComponentLink1Description: Manufacturer URL; ComponentLink1URL: http://www.ftdichip.com/; ComponentLink2Description: Datasheet; ComponentLink2URL: http://www.ftdichip.com/Support/Documents/DataSheets/ICs/DS_FT245R.pdf; Manuf1: FTDI
footprint SSOP-28_N (SOP, 28-Leads, Body 10.2x5.3mm, Pitch 0.65mm, IPC Medium Density)
footprint SSOP-28_L (SOP, 28-Leads, Body 10.2x5.3mm, Pitch 0.65mm, IPC High Density)
footprint SSOP-28_M (SOP, 28-Leads, Body 10.2x5.3mm, Pitch 0.65mm, IPC Low Density)
pins: 1 D0 (io), 2 D4 (io), 3 D2 (io), 4 VCCIO (power), 5 D1 (io), 6 D7 (io), 7 GND (power), 8 NC, 9 D5 (io), 10 D6 (io), 11 D3 (io), 12 PWREN# (out), 13 RD# (in), 14 WR (in), 15 USBDP (io), 16 USBDM (io), 17 3V3OUT (out), 18 GND (power), 19 RESET# (in), 20 VCC (power), 21 GND (power), 22 TXE# (out), 23 RXF# (out), 24 NC, 25 AGND (power), 26 TEST (in), 27 OSCI (in), 28 OSCO (out)

## FT245RL-Tube
designator U?
USB/Parallel FIFO Bi-Directional Data Transfer Chip, 28-pin SSOP, Tube; Manufacturer: FTDI; PartNumber: FT245RL-Tube; Populated: Yes; DatasheetVersion: ver 2.12, Apr-2011; PackageVersion: Apr-11; PackageReference: SSOP-28; PackageDescription: 28-Pin Small Outline Package 0.65 mm Pitch; ComponentLink1Description: Manufacturer URL; ComponentLink1URL: http://www.ftdichip.com/; ComponentLink2Description: Datasheet; ComponentLink2URL: http://www.ftdichip.com/Support/Documents/DataSheets/ICs/DS_FT245R.pdf; Manuf1: FTDI
footprint SSOP-28_N (SOP, 28-Leads, Body 10.2x5.3mm, Pitch 0.65mm, IPC Medium Density)
footprint SSOP-28_L (SOP, 28-Leads, Body 10.2x5.3mm, Pitch 0.65mm, IPC High Density)
footprint SSOP-28_M (SOP, 28-Leads, Body 10.2x5.3mm, Pitch 0.65mm, IPC Low Density)
pins: 1 D0 (io), 2 D4 (io), 3 D2 (io), 4 VCCIO (power), 5 D1 (io), 6 D7 (io), 7 GND (power), 8 NC, 9 D5 (io), 10 D6 (io), 11 D3 (io), 12 PWREN# (out), 13 RD# (in), 14 WR (in), 15 USBDP (io), 16 USBDM (io), 17 3V3OUT (out), 18 GND (power), 19 RESET# (in), 20 VCC (power), 21 GND (power), 22 TXE# (out), 23 RXF# (out), 24 NC, 25 AGND (power), 26 TEST (in), 27 OSCI (in), 28 OSCO (out)

## FT245RQ-Reel
designator U?
USB/Parallel FIFO Bi-Directional Data Transfer Chip, 32-pin QFN, Tape and Reel; Manufacturer: FTDI; PartNumber: FT245RQ-Reel; Populated: Yes; DatasheetVersion: ver 2.12, Apr-2011; PackageVersion: Apr-11; PackageReference: PQFN5X5-32; PackageDescription: 32-Pin Quad Flat No-Lead 0.5 mm Pitch, Pullback, 3.2 x 3.2 mm Exposed Pad; ComponentLink1Description: Manufacturer URL; ComponentLink1URL: http://www.ftdichip.com/; ComponentLink2Description: Datasheet; ComponentLink2URL: http://www.ftdichip.com/Support/Documents/DataSheets/ICs/DS_FT245R.pdf; Manuf1: FTDI
footprint PQFN5X5-32_V (QFN, 32-Leads, Body 5x5mm, Pitch 0.5mm, Thermal Pad 3.3x3.3mm, FTDI Recommended)
pins: 1 VCCIO (power), 2 D1 (io), 3 D7 (io), 4 GND (power), 5 NC, 6 D5 (io), 7 D6 (io), 8 D3 (io), 9 PWREN# (out), 10 RD# (in), 11 WR (in), 12 NC, 13 NC, 14 USBDP (io), 15 USBDM (io), 16 3V3OUT (out), 17 GND (power), 18 RESET# (in), 19 VCC (power), 20 GND (power), 21 TXE# (out), 22 RXF# (out), 23 NC, 24 AGND (power), 25 NC, 26 TEST (in), 27 OSCI (in), 28 OSCO (out), 29 NC, 30 D0 (io), 31 D4 (io), 32 D2 (io), 33 GND (power)

## FT245RQ-Tray
designator U?
USB/Parallel FIFO Bi-Directional Data Transfer Chip, 32-pin QFN, Tray; Manufacturer: FTDI; PartNumber: FT245RQ-Tray; Populated: Yes; DatasheetVersion: ver 2.12, Apr-2011; PackageVersion: Apr-11; PackageReference: PQFN5X5-32; PackageDescription: 32-Pin Quad Flat No-Lead 0.5 mm Pitch, Pullback, 3.2 x 3.2 mm Exposed Pad; ComponentLink1Description: Manufacturer URL; ComponentLink1URL: http://www.ftdichip.com/; ComponentLink2Description: Datasheet; ComponentLink2URL: http://www.ftdichip.com/Support/Documents/DataSheets/ICs/DS_FT245R.pdf; Manuf1: FTDI
footprint PQFN5X5-32_V (QFN, 32-Leads, Body 5x5mm, Pitch 0.5mm, Thermal Pad 3.3x3.3mm, FTDI Recommended)
pins: 1 VCCIO (power), 2 D1 (io), 3 D7 (io), 4 GND (power), 5 NC, 6 D5 (io), 7 D6 (io), 8 D3 (io), 9 PWREN# (out), 10 RD# (in), 11 WR (in), 12 NC, 13 NC, 14 USBDP (io), 15 USBDM (io), 16 3V3OUT (out), 17 GND (power), 18 RESET# (in), 19 VCC (power), 20 GND (power), 21 TXE# (out), 22 RXF# (out), 23 NC, 24 AGND (power), 25 NC, 26 TEST (in), 27 OSCI (in), 28 OSCO (out), 29 NC, 30 D0 (io), 31 D4 (io), 32 D2 (io), 33 GND (power)

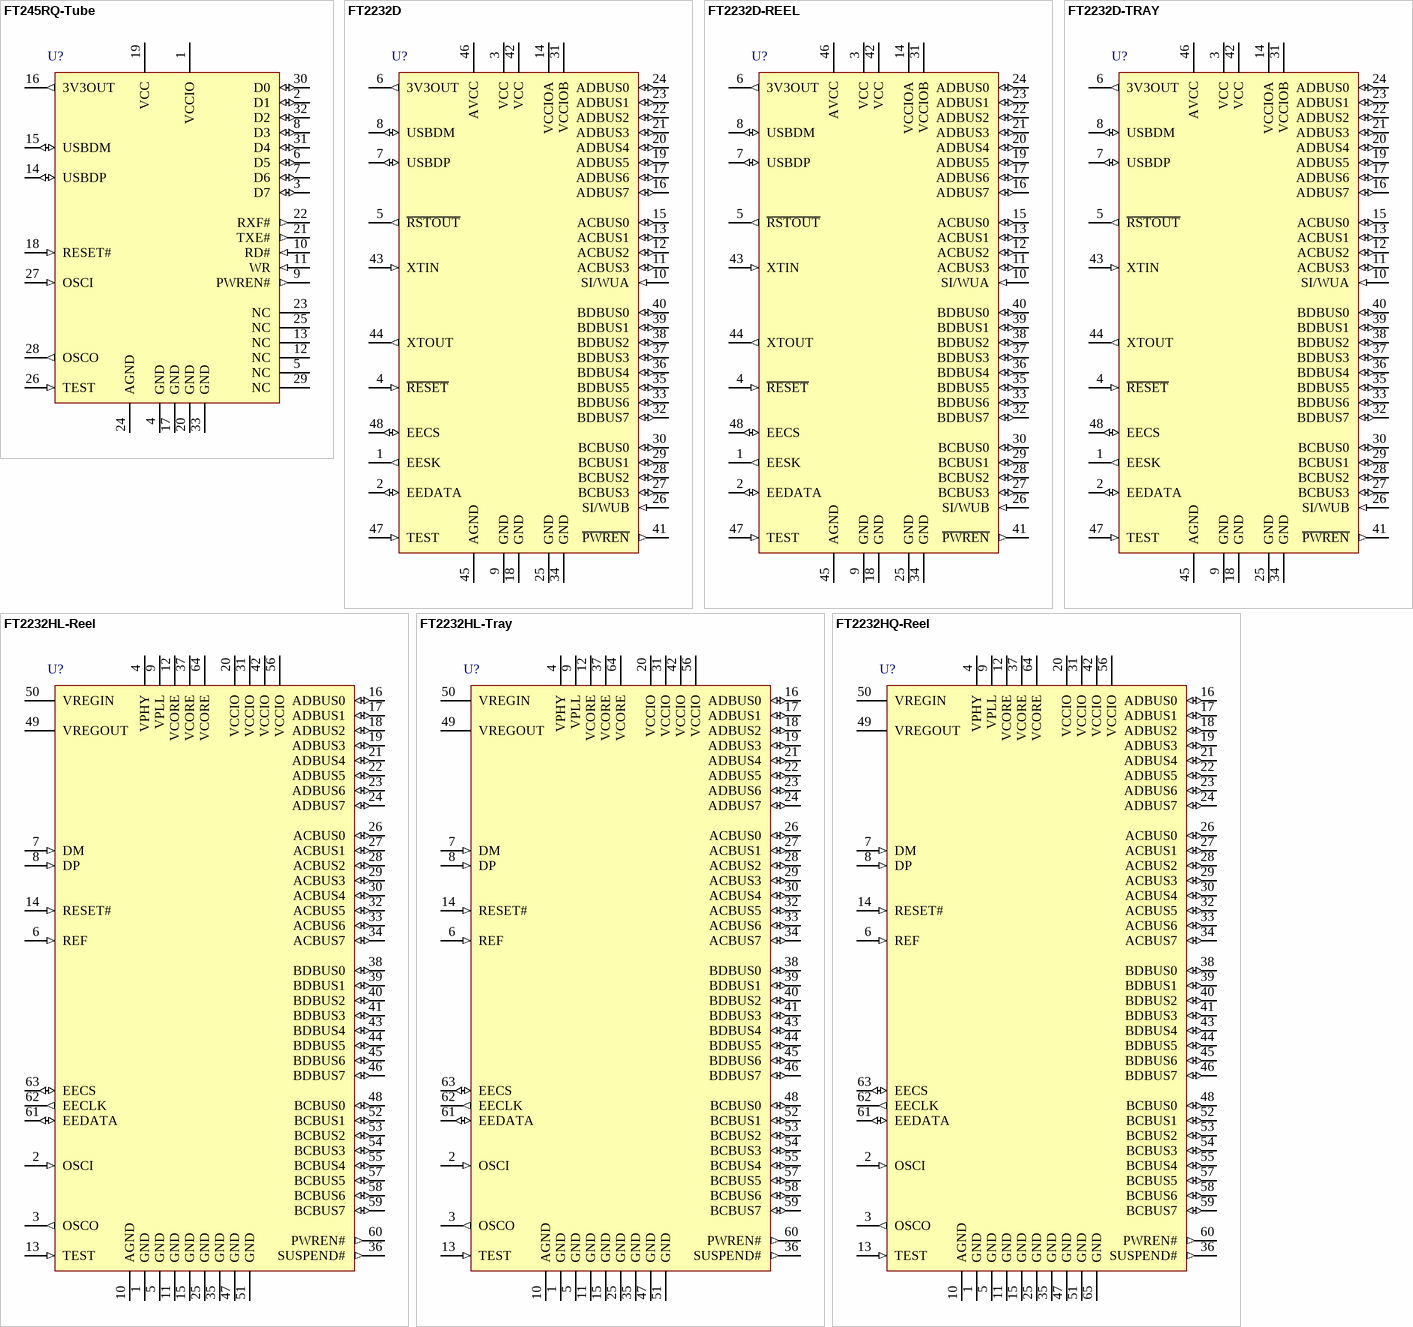
[diagram p2: symbols FT245RQ-Tube to FT2232HQ-Reel]

## FT245RQ-Tube
designator U?
USB/Parallel FIFO Bi-Directional Data Transfer Chip, 32-pin QFN, Tube; Manufacturer: FTDI; PartNumber: FT245RQ-Tube; Populated: Yes; DatasheetVersion: ver 2.12, Apr-2011; PackageVersion: Apr-11; PackageReference: PQFN5X5-32; PackageDescription: 32-Pin Quad Flat No-Lead 0.5 mm Pitch, Pullback, 3.2 x 3.2 mm Exposed Pad; ComponentLink1Description: Manufacturer URL; ComponentLink1URL: http://www.ftdichip.com/; ComponentLink2Description: Datasheet; ComponentLink2URL: http://www.ftdichip.com/Support/Documents/DataSheets/ICs/DS_FT245R.pdf; Manuf1: FTDI
footprint PQFN5X5-32_V (QFN, 32-Leads, Body 5x5mm, Pitch 0.5mm, Thermal Pad 3.3x3.3mm, FTDI Recommended)
pins: 1 VCCIO (power), 2 D1 (io), 3 D7 (io), 4 GND (power), 5 NC, 6 D5 (io), 7 D6 (io), 8 D3 (io), 9 PWREN# (out), 10 RD# (in), 11 WR (in), 12 NC, 13 NC, 14 USBDP (io), 15 USBDM (io), 16 3V3OUT (out), 17 GND (power), 18 RESET# (in), 19 VCC (power), 20 GND (power), 21 TXE# (out), 22 RXF# (out), 23 NC, 24 AGND (power), 25 NC, 26 TEST (in), 27 OSCI (in), 28 OSCO (out), 29 NC, 30 D0 (io), 31 D4 (io), 32 D2 (io), 33 GND (power)

## FT2232D
designator U?
FT2232D Dual USB to Serial UART/FIFO IC, -40 to +85 degC, 48-pin LQFP; Manufacturer: FTDI; Populated: Yes; DatasheetVersion: ver 2.05, Apr-2011; PackageVersion: Apr-11; PackageReference: LQFP-48; PackageDescription: 48-Pin Thin Quad Flat Pack, 7 x 7 mm Body, 0.5 mm Pitch; PartNumber: FT2232D; ComponentLink1Description: Manufacturer URL; ComponentLink1URL: http://www.ftdichip.com/; ComponentLink2Description: Datasheet; ComponentLink2URL: http://www.ftdichip.com/Support/Documents/DataSheets/ICs/DS_FT2232D.pdf; Manuf1: FTDI
footprint LQFP-48_N (Thin QFP, 48-Leads, Body 7x7mm, Pitch 0.5mm, IPC Medium Density)
footprint LQFP-48_L (Thin QFP, 48-Leads, Body 7x7mm, Pitch 0.5mm, IPC High Density)
footprint LQFP-48_M (Thin QFP, 48-Leads, Body 7x7mm, Pitch 0.5mm, IPC Low Density)
pins: 1 EESK (out), 2 EEDATA (io), 3 VCC (power), 4 ~{RESET} (in), 5 ~{RSTOUT} (out), 6 3V3OUT (out), 7 USBDP (io), 8 USBDM (io), 9 GND (power), 10 SI/WUA (in), 11 ACBUS3 (io), 12 ACBUS2 (io), 13 ACBUS1 (io), 14 VCCIOA (power), 15 ACBUS0 (io), 16 ADBUS7 (io), 17 ADBUS6 (io), 18 GND (power), 19 ADBUS5 (io), 20 ADBUS4 (io), 21 ADBUS3 (io), 22 ADBUS2 (io), 23 ADBUS1 (io), 24 ADBUS0 (io), 25 GND (power), 26 SI/WUB (in), 27 BCBUS3 (io), 28 BCBUS2 (io), 29 BCBUS1 (io), 30 BCBUS0 (io), 31 VCCIOB (power), 32 BDBUS7 (io), 33 BDBUS6 (io), 34 GND (power), 35 BDBUS5 (io), 36 BDBUS4 (io), 37 BDBUS3 (io), 38 BDBUS2 (io), 39 BDBUS1 (io), 40 BDBUS0 (io), 41 ~{PWREN} (out), 42 VCC (power), 43 XTIN (in), 44 XTOUT (out), 45 AGND (power), 46 AVCC (power), 47 TEST (in), 48 EECS (io)

## FT2232D-REEL
designator U?
FT2232D Dual USB to Serial UART/FIFO IC, -40 to +85 degC, 48-Pin LQFP, Pb-Free, Tape and Reel; Manufacturer: FTDI; PartNumber: FT2232D-REEL; Populated: Yes; DatasheetVersion: ver 2.05, Apr-2011; PackageVersion: Apr-11; PackageReference: LQFP-48; PackageDescription: 48-Pin Thin Quad Flat Pack, 7 x 7 mm Body, 0.5 mm Pitch; ComponentLink1Description: Manufacturer URL; ComponentLink1URL: http://www.ftdichip.com/; ComponentLink2Description: Datasheet; ComponentLink2URL: http://www.ftdichip.com/Support/Documents/DataSheets/ICs/DS_FT2232D.pdf; Manuf1: FTDI
footprint LQFP-48_N (Thin QFP, 48-Leads, Body 7x7mm, Pitch 0.5mm, IPC Medium Density)
footprint LQFP-48_L (Thin QFP, 48-Leads, Body 7x7mm, Pitch 0.5mm, IPC High Density)
footprint LQFP-48_M (Thin QFP, 48-Leads, Body 7x7mm, Pitch 0.5mm, IPC Low Density)
pins: 1 EESK (out), 2 EEDATA (io), 3 VCC (power), 4 ~{RESET} (in), 5 ~{RSTOUT} (out), 6 3V3OUT (out), 7 USBDP (io), 8 USBDM (io), 9 GND (power), 10 SI/WUA (in), 11 ACBUS3 (io), 12 ACBUS2 (io), 13 ACBUS1 (io), 14 VCCIOA (power), 15 ACBUS0 (io), 16 ADBUS7 (io), 17 ADBUS6 (io), 18 GND (power), 19 ADBUS5 (io), 20 ADBUS4 (io), 21 ADBUS3 (io), 22 ADBUS2 (io), 23 ADBUS1 (io), 24 ADBUS0 (io), 25 GND (power), 26 SI/WUB (in), 27 BCBUS3 (io), 28 BCBUS2 (io), 29 BCBUS1 (io), 30 BCBUS0 (io), 31 VCCIOB (power), 32 BDBUS7 (io), 33 BDBUS6 (io), 34 GND (power), 35 BDBUS5 (io), 36 BDBUS4 (io), 37 BDBUS3 (io), 38 BDBUS2 (io), 39 BDBUS1 (io), 40 BDBUS0 (io), 41 ~{PWREN} (out), 42 VCC (power), 43 XTIN (in), 44 XTOUT (out), 45 AGND (power), 46 AVCC (power), 47 TEST (in), 48 EECS (io)

## FT2232D-TRAY
designator U?
FT2232D Dual USB to Serial UART/FIFO IC, -40 to +85 degC, 48-Pin LQFP, Pb-Free, Tray; Manufacturer: FTDI; PartNumber: FT2232D-TRAY; Populated: Yes; DatasheetVersion: ver 2.05, Apr-2011; PackageVersion: Apr-11; PackageReference: LQFP-48; PackageDescription: 48-Pin Thin Quad Flat Pack, 7 x 7 mm Body, 0.5 mm Pitch; ComponentLink1Description: Manufacturer URL; ComponentLink1URL: http://www.ftdichip.com/; ComponentLink2Description: Datasheet; ComponentLink2URL: http://www.ftdichip.com/Support/Documents/DataSheets/ICs/DS_FT2232D.pdf; Manuf1: FTDI
footprint LQFP-48_N (Thin QFP, 48-Leads, Body 7x7mm, Pitch 0.5mm, IPC Medium Density)
footprint LQFP-48_L (Thin QFP, 48-Leads, Body 7x7mm, Pitch 0.5mm, IPC High Density)
footprint LQFP-48_M (Thin QFP, 48-Leads, Body 7x7mm, Pitch 0.5mm, IPC Low Density)
pins: 1 EESK (out), 2 EEDATA (io), 3 VCC (power), 4 ~{RESET} (in), 5 ~{RSTOUT} (out), 6 3V3OUT (out), 7 USBDP (io), 8 USBDM (io), 9 GND (power), 10 SI/WUA (in), 11 ACBUS3 (io), 12 ACBUS2 (io), 13 ACBUS1 (io), 14 VCCIOA (power), 15 ACBUS0 (io), 16 ADBUS7 (io), 17 ADBUS6 (io), 18 GND (power), 19 ADBUS5 (io), 20 ADBUS4 (io), 21 ADBUS3 (io), 22 ADBUS2 (io), 23 ADBUS1 (io), 24 ADBUS0 (io), 25 GND (power), 26 SI/WUB (in), 27 BCBUS3 (io), 28 BCBUS2 (io), 29 BCBUS1 (io), 30 BCBUS0 (io), 31 VCCIOB (power), 32 BDBUS7 (io), 33 BDBUS6 (io), 34 GND (power), 35 BDBUS5 (io), 36 BDBUS4 (io), 37 BDBUS3 (io), 38 BDBUS2 (io), 39 BDBUS1 (io), 40 BDBUS0 (io), 41 ~{PWREN} (out), 42 VCC (power), 43 XTIN (in), 44 XTOUT (out), 45 AGND (power), 46 AVCC (power), 47 TEST (in), 48 EECS (io)